# EAGLE library part IS61LV256AL (library memory-sram)
MEMORY 32K x 8 LOW VOLTAGE CMOS STATIC RAM
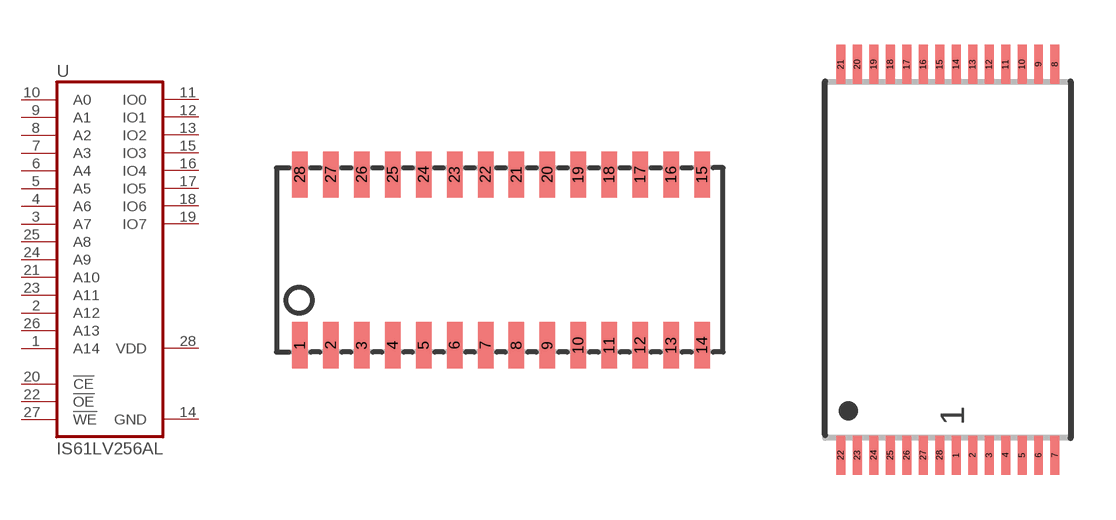
[diagram p22: symbol with the pads of SOJ28/3; footprints SOJ28/3, TSOP28-450-T1]

Designator prefix U

## IS61LV256AL-10J  [SOJ28/3]
1  A14  in
2  A12  in
3  A7  in
4  A6  in
5  A5  in
6  A4  in
7  A3  in
8  A2  in
9  A1  in
10  A0  in
11  IO0
12  IO1
13  IO2
14  GND  pwr
15  IO3
16  IO4
17  IO5
18  IO6
19  IO7
20  !CE!  in
21  A10  in
22  !OE!  in
23  A11  in
24  A9  in
25  A8  in
26  A13  in
27  !WE!  in
28  VDD  pwr

## IS61LV256AL-10T  [TSOP28-450-T1]
Pads as for SOJ28/3

## Footprint SOJ28/3 (pad centres in mm)
Small Outline J-Bend
smd 0.635 x 1.905: 1 -7.62,-3.505; 2 -6.35,-3.505; 3 -5.08,-3.505; 4 -3.81,-3.505; 5 -2.54,-3.505; 6 -1.27,-3.505; 7 0,-3.505; 8 1.27,-3.505; 9 2.54,-3.505; 10 3.81,-3.505; 11 5.08,-3.505; 12 6.35,-3.505; 13 7.62,-3.505; 14 8.89,-3.505; 15 8.89,3.505; 16 7.62,3.505; 17 6.35,3.505; 18 5.08,3.505; 19 3.81,3.505; 20 2.54,3.505; 21 1.27,3.505; 22 0,3.505; 23 -1.27,3.505; 24 -2.54,3.505; 25 -3.81,3.505; 26 -5.08,3.505; 27 -6.35,3.505; 28 -7.62,3.505

## Footprint TSOP28-450-T1 (pad centres in mm)
TSOP28 Type-I 450 mil
smd 0.3 x 1.3: 1 0.275,-6.525; 2 0.825,-6.525; 3 1.375,-6.525; 4 1.925,-6.525; 5 2.475,-6.525; 6 3.025,-6.525; 7 3.575,-6.525; 8 3.575,6.525; 9 3.025,6.525; 10 2.475,6.525; 11 1.925,6.525; 12 1.375,6.525; 13 0.825,6.525; 14 0.275,6.525; 15 -0.275,6.525; 16 -0.825,6.525; 17 -1.375,6.525; 18 -1.925,6.525; 19 -2.475,6.525; 20 -3.025,6.525; 21 -3.575,6.525; 22 -3.575,-6.525; 23 -3.025,-6.525; 24 -2.475,-6.525; 25 -1.925,-6.525; 26 -1.375,-6.525; 27 -0.825,-6.525; 28 -0.275,-6.525